# Altium schematic symbol library EPC_2023_Q1a.SCHLIB: 88 symbols (part 2 of 2)
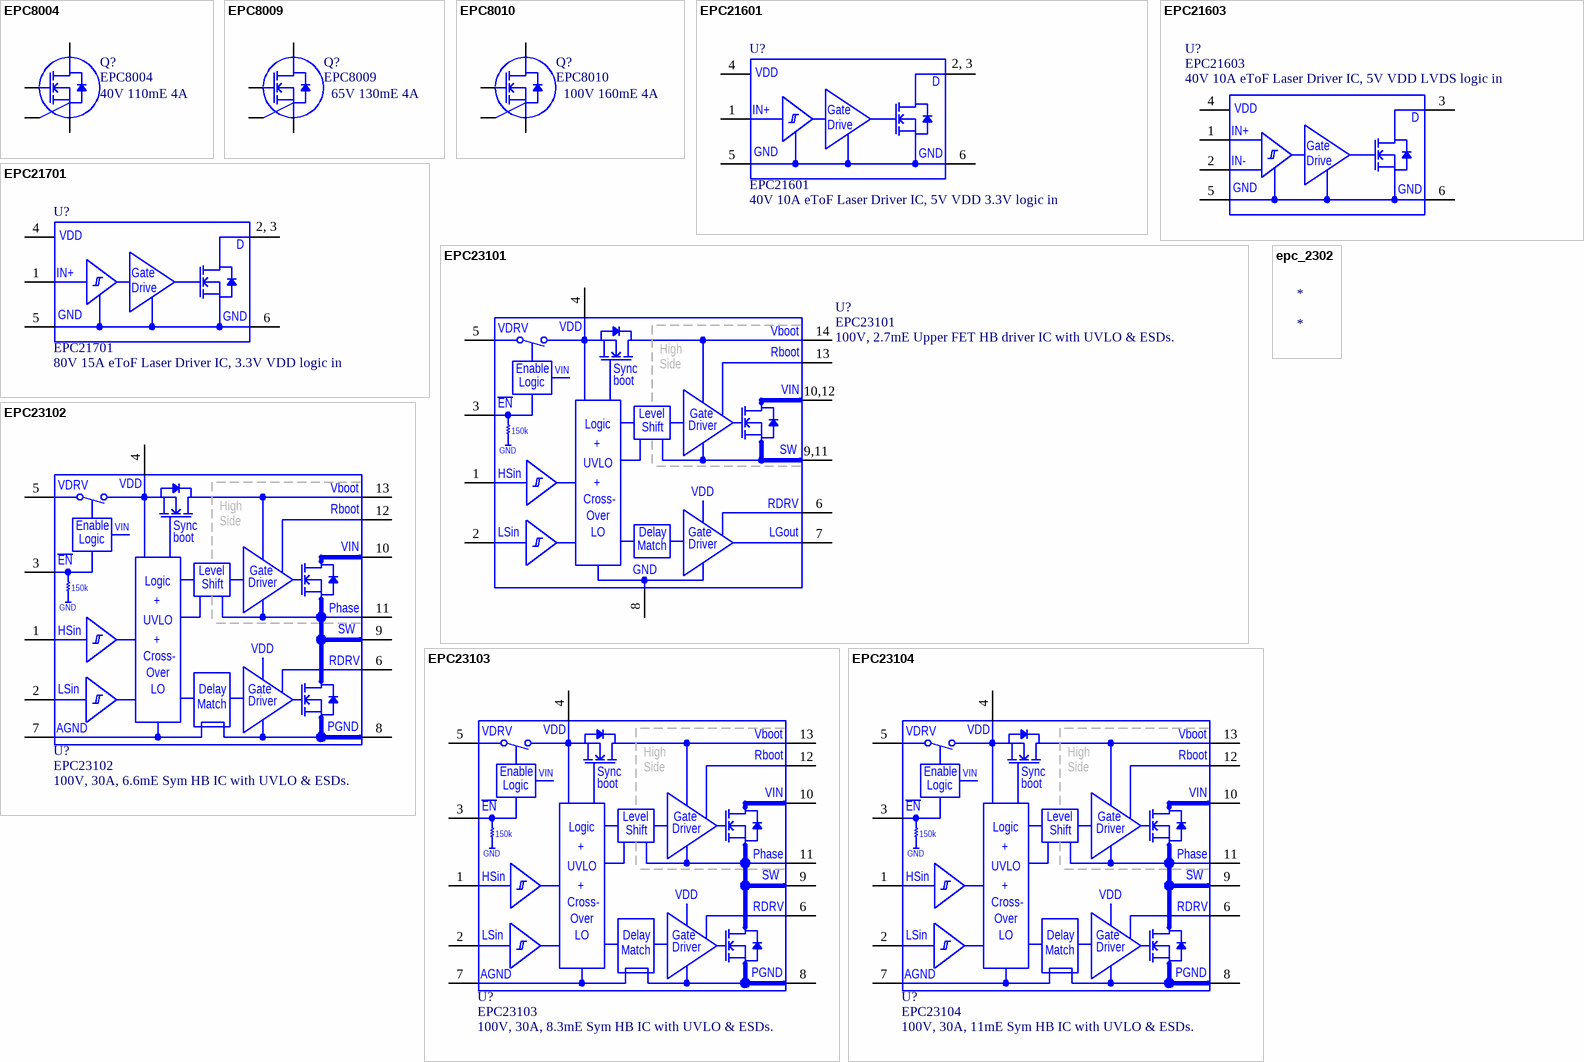
[diagram p3: symbols EPC8004 to epc_2302]

## EPC23101
designator U?  SchDescript: 100V, 2.7mE Upper FET HB driver IC with UVLO & ESDs.
80V, 2.7mE Upper FET HB driver IC with UVLO & ESDs.; MFG: EPC; Name: Chewbacca; Part Number: EPC23101; MFGPN: EPC23101; EPC Part Number: EPC23101; QSGdescript: 100V, 2.7mE Upper FET HB driver IC with UVLO & ESDs.; Status: Released; Supplier 1: Digi-Key; Supplier Part Number 1: 917-EPC23101ENGRTTR-ND; Supplier 2: Digi-Key; Supplier Part Number 2: 917-EPC23101ENGRTCT-ND; Supplier 3: Digi-Key; Supplier Part Number 3: 917-EPC23101ENGRTDKR-ND
footprint D0629
pins: 1 HSin, 2 LSin, 3 ENb, 4 VDD, 5 VDRV, 6 RDRV, 7 LGout, 8 GND, 9 SW, 10 VIN, 11 SW, 12 VIN, 13 Rboot, 14 Vboot
1 alternate drawing of the same symbol
text: High; Side; Enable; Sync; Logic; boot; 10,12; EN; Level; Gate; 150k; Shift; Driver; +; 9,11; UVLO; Cross-; Over; LO; Delay; Match

## EPC23102
designator U?
100V, 30A, 6.6mE Sym HB IC with UVLO & ESDs.; MFG: EPC; Name: Kenobi; Part Number: EPC23102; SchDescript: 100V, 30A, 6.6mE Sym HB IC with UVLO & ESDs.; MFGPN: EPC23102; EPC Part Number: EPC23102; QSGdescript: 100V, 30A, 6.6mE Sym HB IC with UVLO & ESDs.; Status: Released; Supplier 1: Digi-Key; Supplier Part Number 1: 917-EPC23102ENGRTTR-ND; Supplier 2: Digi-Key; Supplier Part Number 2: 917-EPC23102ENGRTCT-ND; Supplier 3: Digi-Key; Supplier Part Number 3: 917-EPC23102ENGRTDKR-ND
footprint D0727
pins: 1 HSin, 2 LSin, 3 ENb, 4 VDD, 5 VDRV, 6 RDRV, 7 AGND, 8 PGND, 9 SW, 10 VIN, 11 Phase, 12 Rboot, 13 Vboot
1 alternate drawing of the same symbol
text: High; Side; Enable; Sync; Logic; boot; EN; Level; Gate; 150k; Shift; Driver; +; GND; UVLO; Cross-; Over; LO; Delay; Match

## EPC23103
designator U?
100V, 30A, 8.3mE Sym HB IC with UVLO & ESDs.; MFG: EPC; Name: MiniKenobi; Part Number: EPC23103; SchDescript: 100V, 30A, 8.3mE Sym HB IC with UVLO & ESDs.; MFGPN: EPC23103; EPC Part Number: EPC23103; QSGdescript: 100V, 30A, 8.3mE Sym HB IC with UVLO & ESDs.; Status: Released; Supplier 1: Digi-Key; Supplier 2: Digi-Key; Supplier 3: Digi-Key
footprint D0727
pins: 1 HSin, 2 LSin, 3 ENb, 4 VDD, 5 VDRV, 6 RDRV, 7 AGND, 8 PGND, 9 SW, 10 VIN, 11 Phase, 12 Rboot, 13 Vboot
1 alternate drawing of the same symbol
text: High; Side; Enable; Sync; Logic; boot; EN; Level; Gate; 150k; Shift; Driver; +; GND; UVLO; Cross-; Over; LO; Delay; Match

## EPC23104
designator U?
100V, 30A, 11mE Sym HB IC with UVLO & ESDs.; MFG: EPC; Name: MicroKenobi; Part Number: EPC23104; MFGPN: EPC23104; EPC Part Number: EPC23104; QSGdescript: 100V, 30A, 11mE Sym HB IC with UVLO & ESDs.; Status: Released; Supplier 1: Digi-Key; Supplier 2: Digi-Key; Supplier 3: Digi-Key; SchDescript: 100V, 30A, 11mE Sym HB IC with UVLO & ESDs.
footprint D0727
pins: 1 HSin, 2 LSin, 3 ENb, 4 VDD, 5 VDRV, 6 RDRV, 7 AGND, 8 PGND, 9 SW, 10 VIN, 11 Phase, 12 Rboot, 13 Vboot
1 alternate drawing of the same symbol
text: High; Side; Enable; Sync; Logic; boot; EN; Level; Gate; 150k; Shift; Driver; +; GND; UVLO; Cross-; Over; LO; Delay; Match

## epc_2302
designator *